# Altium schematic symbol library TL5209.Schlib: 1 symbol
Pins are listed as number, name and electrical type; pins without a type are passive.

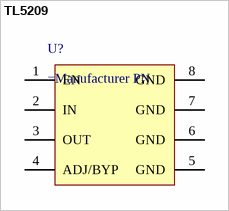
[diagram p0: symbol TL5209]

## TL5209
designator U?
LDO Linear Reg.
pins: 1 EN, 2 IN, 3 OUT, 4 ADJ/BYP, 5 GND, 6 GND, 7 GND, 8 GND